# Altium footprint library Headers.PcbLib: 89 footprints (part 1 of 6)
Each footprint in its own frame and in the unit in brackets; x right, y up, seen from the top. Pads: shape width x height; smd on the part's side, far side on the other; paste and mask are expansions set on the pad; w line width, h text height; cw(c..) or ccw(c..) is an arc to the next point about the centre after c.
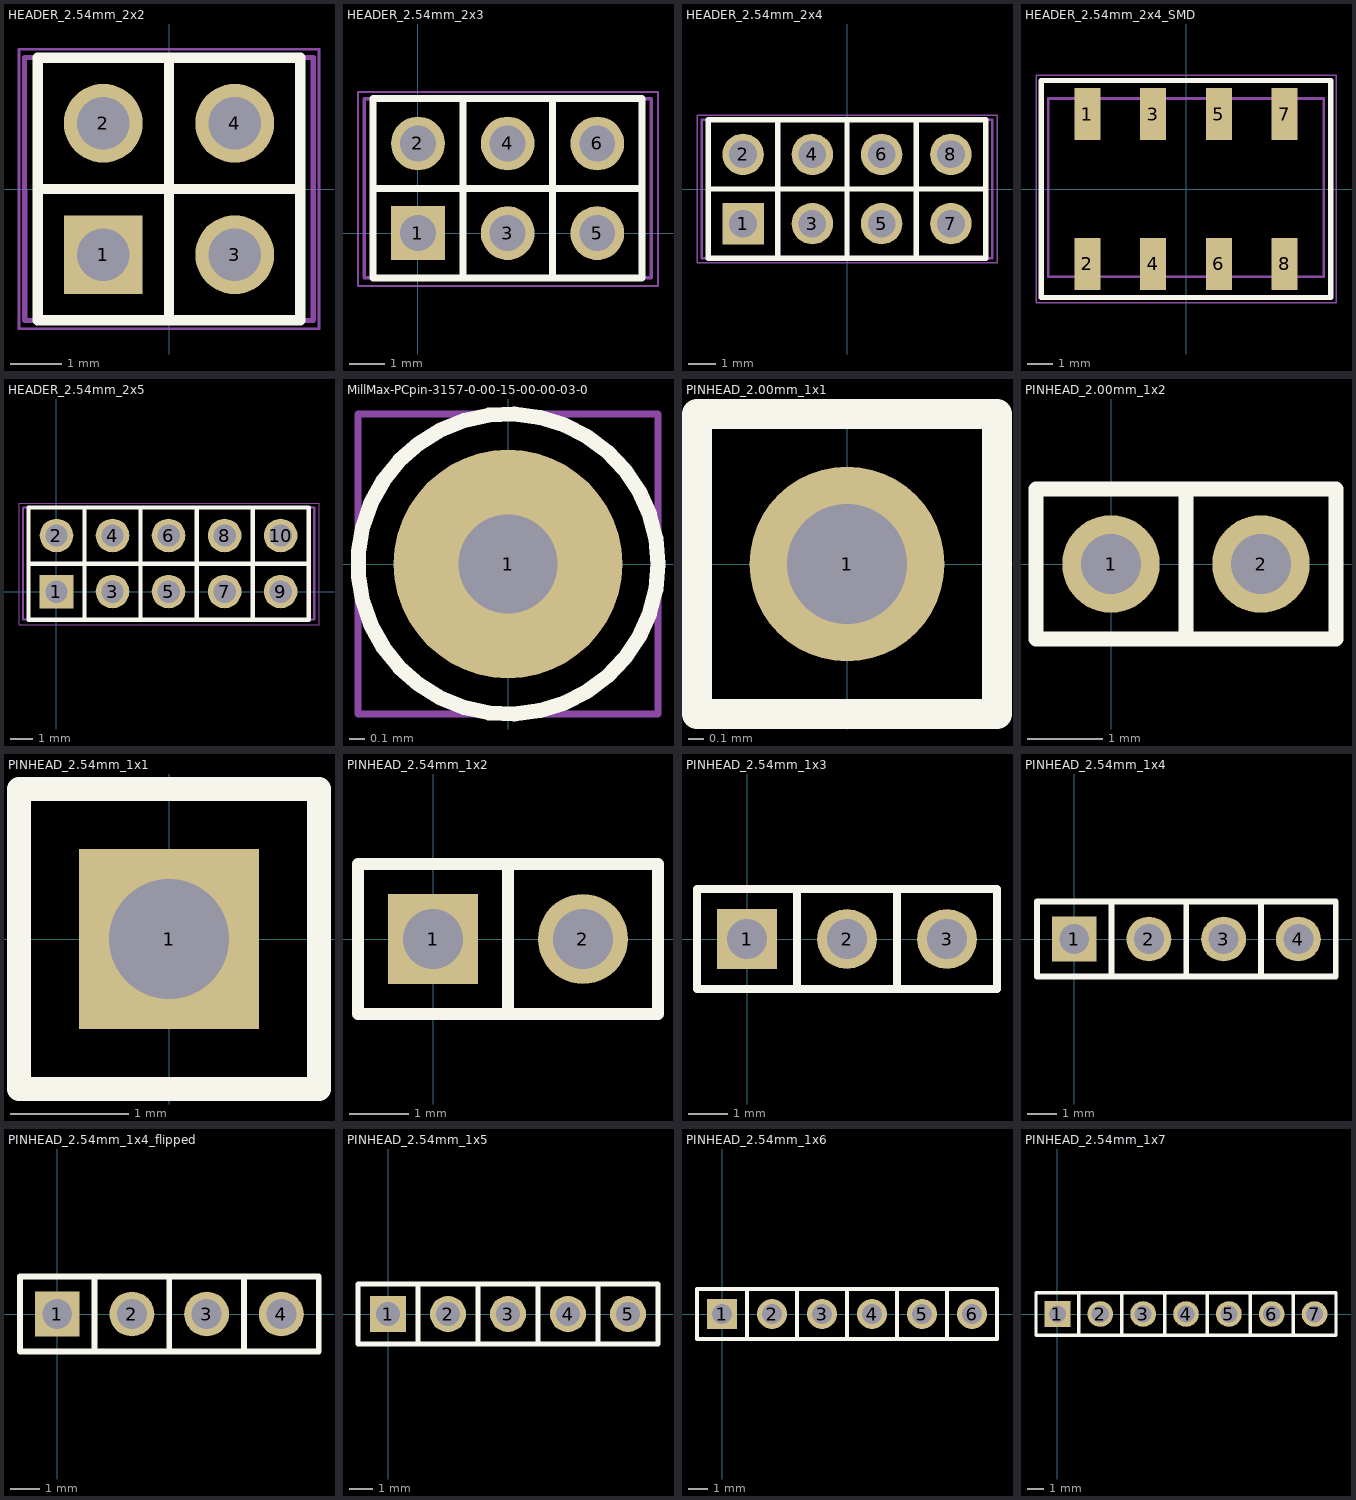
[diagram p0: the footprints below, top view; thin cyan lines are the x and y axes]

## HEADER_2.54mm_2x2 [mil]
pads (4):
  rect 60x60 hole 40: 1(-50,-50)
  round 60 hole 40: 2(-50,50) 3(50,-50) 4(50,50)
Top Overlay:
  lines w7.87: -100,0 0,0 ; -100,0 -100,-100 0,-100 ; -100,0 -100,100 0,100 ; -100,0 0,0 ; 0,-100 0,0 ; 0,-100 0,0 ; 0,-100 100,-100 ; 0,0 100,0 ; 0,0 100,0 ; 0,0 0,100 ; 0,0 0,100 ; 0,100 100,100 ; 100,-100 100,0 ; 100,-100 100,0 ; 100,0 100,100 ; 100,0 100,100
Mechanical 13:
  lines w3.94: -110,-100 109.84,-100 109.84,100 -110,100 -109.84,-100
Mechanical 15:
  lines w1.97: -114.17,-106.3 114.17,-106.3 114.17,106.3 -114.17,106.3 -114.17,-106.3
  text ".Designator" at -111.17,1.17 h78.74
3D body "_ _ _C022LFBN-RC.STEP": height 344.65, standoff -115.98, extent -110.24,-100 109.45,100

## HEADER_2.54mm_2x3 [mil]
pads (6):
  rect 60x60 hole 40: 1(0,0)
  round 60 hole 40: 2(0,100) 3(100,0) 4(100,100) 5(200,0) 6(200,100)
Top Overlay:
  lines w7.87: -50,50 50,50 ; -50,50 -50,150 50,150 ; -50,50 -50,-50 50,-50 ; -50,50 50,50 ; 50,-50 150,-50 ; 50,-50 50,50 ; 50,-50 50,50 ; 50,50 50,150 ; 50,50 50,150 ; 50,50 150,50 ; 50,50 150,50 ; 50,150 150,150 ; 150,-50 150,50 ; 150,-50 250,-50 250,150 150,150 ; 150,-50 150,50 ; 150,50 150,150 ; 150,50 250,50 150,50 ; 150,50 150,150
Mechanical 13:
  lines w3.94: -60,-50 -60,150 260,150 260,-50 -60,-50
Mechanical 15:
  lines w1.97: -66.93,-59.06 -66.93,157.48 267.72,157.48 267.72,-59.06 -66.93,-59.06
  text ".Designator" at -61.17,51.17 h78.74
3D body "User Library-66953-003LF[1].step": height 325, standoff -140, extent -47.24,-68.82 247.76,171.18

## HEADER_2.54mm_2x4 [mil]
pads (8):
  rect 60x60 hole 40: 1(-150,-50)
  round 60 hole 40: 2(-150,50) 3(-50,-50) 4(-50,50) 6(50,50) 7(150,-50) 8(150,50)
  round 60 hole 40 mask+4: 5(50,-50)
Top Overlay:
  lines w7.87: -200,0 -100,0 ; -200,0 -200,100 -100,100 ; -200,0 -200,-100 -100,-100 ; -200,0 -100,0 ; -100,-100 -100,0 ; -100,-100 -100,0 ; -100,-100 0,-100 ; -100,-100 -100,0 ; -100,0 -100,100 ; -100,0 -100,100 ; -100,0 0,0 ; -100,0 -100,100 ; -100,0 0,0 ; -100,100 0,100 ; 0,-100 0,0 ; 0,-100 0,0 ; 0,-100 100,-100 ; 0,0 100,0 ; 0,0 100,0 ; 0,0 0,100 ; 0,0 0,100 ; 0,100 100,100 ; 100,-100 100,0 ; 100,-100 200,-100 ; 100,-100 100,0 ; 100,-100 100,0 ; 100,0 200,0 ; 100,0 100,100 ; 100,0 200,0 ; 100,0 100,100 ; 100,0 100,100 ; 100,100 200,100 ; 200,-100 200,0 ; 200,-100 200,0 ; 200,0 200,100 ; 200,0 200,100
Mechanical 13:
  lines w3.94: -209.84,-100 209.84,-100 209.84,100 -209.84,100 -209.84,-100
Mechanical 15:
  lines w1.97: -216.54,-106.3 216.54,-106.3 216.54,106.3 -216.54,106.3 -216.54,-106.3
  text ".Designator" at -188.98,-11.81 h78.74
3D body "_____C042LFBN-RC[1].STEP": height 344.65, standoff -115.98, extent -209.84,-100 209.84,100

## HEADER_2.54mm_2x4_SMD [mm]
pads (8):
  rect 1x2 smd: 1(-3.81,2.9) 2(-3.81,-2.9) 3(-1.27,2.9) 4(-1.27,-2.9) 5(1.27,2.9) 6(1.27,-2.9) 7(3.81,2.9) 8(3.81,-2.9)
Top Overlay:
  lines w0.2: -5.6,-4.2 5.6,-4.2 5.6,4.2 -5.6,4.2 -5.6,-4.2
Mechanical 13:
  lines w0.1: -5.33,-3.4 5.33,-3.4 5.33,3.5 -5.33,3.5 -5.33,-3.4
Mechanical 15:
  lines w0.05: -5.8,-4.4 5.8,-4.4 5.8,4.4 -5.8,4.4 -5.8,-4.4
  text ".Designator" at -4.8,-0.3 h2
3D body "_ _ _C042KFMS-RC.STEP": height 7.5, standoff 0, extent -5.33,-3.4 5.33,3.446

## HEADER_2.54mm_2x5 [mil]
pads (10):
  rect 60x60 hole 40: 1(0,0)
  round 60 hole 40: 2(0,100) 3(100,0) 4(100,100) 5(200,0) 6(200,100) 7(300,0) 8(300,100) 9(400,0) 10(400,100)
Top Overlay:
  lines w7.87: -50,50 50,50 ; -50,50 -50,150 50,150 ; -50,50 -50,-50 50,-50 ; -50,50 50,50 ; 50,-50 150,-50 ; 50,-50 50,50 ; 50,-50 50,50 ; 50,50 50,150 ; 50,50 50,150 ; 50,50 150,50 ; 50,50 150,50 ; 50,150 150,150 ; 150,-50 150,50 ; 150,-50 250,-50 ; 150,-50 150,50 ; 150,50 150,150 ; 150,50 250,50 ; 150,50 150,150 ; 150,50 250,50 ; 150,150 250,150 ; 250,-50 250,50 ; 250,-50 350,-50 ; 250,-50 250,50 ; 250,-50 250,150 ; 250,50 350,50 ; 250,50 250,150 ; 250,50 350,50 ; 250,50 250,150 ; 250,150 350,150 ; 350,-50 350,50 ; 350,-50 450,-50 450,150 350,150 ; 350,-50 350,50 ; 350,-50 350,150 ; 350,50 450,50 350,50 ; 350,50 350,150 ; 350,50 350,150
Mechanical 13:
  lines w3.94: -60,-50 -60,150 460,150 460,-50 -60,-50
Mechanical 15:
  lines w1.97: -66.93,-59.06 -66.93,157.48 468.5,157.48 468.5,-59.06 -66.93,-59.06
  text ".Designator" at 27.56,35.43 h78.74
3D body "User Library-Header 5X2.STEP": height 333.75, standoff -126.88, extent -60,-49 459.68,151

## MillMax-PCpin-3157-0-00-15-00-00-03-0 [mil]
pads (1):
  round 60 hole 26: 1(0,0)
Top Overlay:
  circle w3.94: c0,0 r39.37
Mechanical 13:
  circle w3.94: c0,0 r22.51
Mechanical 15:
  lines w1.97: -39.37,-39.37 39.37,-39.37 39.37,39.37 -39.37,39.37 -39.37,-39.37
  text ".Designator" at -39.37,-7.87 h27.56
3D body "mill-max-3157-0-00-01-00-00-03-0.step": height 145, standoff -45, extent -22.49,-22.49 22.51,22.51

## PINHEAD_2.00mm_1x1 [mm]
pads (1):
  round 1.3 hole 0.8: 1(0,0)
Top Overlay:
  lines w0.2: -1,-1 1,-1 1,1 -1,1 -1,-1
Mechanical 15:
  lines w0.05: -1,-1 1,-1 1,1 -1,1 -1,-1
  text ".Designator" at -0.9,-0.1 h0.5
3D body "_ _ _N021PAEN-RC_singlepin.stp": height 5.64, standoff -2.76, extent -1,-1 1,1

## PINHEAD_2.00mm_1x2 [mm]
pads (2):
  round 1.3 hole 0.8: 1(0,0) 2(2,0)
Top Overlay:
  lines w0.2: 1,-1 1,1 ; 1,-1 -1,-1 -1,1 1,1 ; 1,-1 3,-1 3,1 1,1
Mechanical 15:
  lines w0.05: -1,-1 3,-1 3,1 -1,1 -1,-1
  text ".Designator" at -0.9,-0.1 h0.5
3D body "_____N021PAEN-RC[1].STEP": height 5.64, standoff -2.76, extent -1,-1 3,1

## PINHEAD_2.54mm_1x1 [mil]
pads (1):
  rect 60x60 hole 40: 1(0,0)
Top Overlay:
  lines w7.87: -50,-50 50,-50 50,50 -50,50 -50,-50
3D body "User Library-HDR1X1 Rectangular Straight.step": height 339.58, standoff -124.98, extent -53.14,-53.15 53.16,53.15

## PINHEAD_2.54mm_1x2 [mil]
pads (2):
  rect 60x60 hole 40: 1(0,0)
  round 60 hole 40: 2(100,0)
Top Overlay:
  lines w7.87: 50,-50 150,-50 150,50 50,50 ; 50,-50 50,50 ; 50,-50 50,50 ; 50,-50 -50,-50 -50,50 50,50
3D body "User Library-HDR1X1 Rectangular Straight.step": height 339.58, standoff -124.98, extent 46.86,-53.14 153.16,53.16
3D body "User Library-HDR1X1 Rectangular Straight.step": height 339.58, standoff -124.98, extent -53.14,-53.15 53.16,53.15

## PINHEAD_2.54mm_1x3 [mil]
pads (3):
  rect 60x60 hole 40: 1(0,0)
  round 60 hole 40: 2(100,0) 3(200,0)
Top Overlay:
  lines w7.87: 50,-50 -50,-50 -50,50 50,50 ; 50,-50 50,50 ; 50,-50 50,50 ; 50,-50 150,-50 ; 50,50 150,50 ; 150,-50 250,-50 250,50 150,50 ; 150,-50 150,50 ; 150,-50 150,50
3D body "User Library-HDR1X1 Rectangular Straight.step": height 339.58, standoff -124.98, extent 146.86,-53.15 253.16,53.15
3D body "User Library-HDR1X1 Rectangular Straight.step": height 339.58, standoff -124.98, extent -53.14,-53.15 53.16,53.15
3D body "User Library-HDR1X1 Rectangular Straight.step": height 339.58, standoff -124.98, extent 46.86,-53.14 153.16,53.16

## PINHEAD_2.54mm_1x4 [mil]
pads (4):
  rect 60x60 hole 40: 1(0,0)
  round 60 hole 40: 2(100,0) 3(200,0) 4(300,0)
Top Overlay:
  lines w7.87: 50,-50 150,-50 ; 50,-50 50,50 ; 50,-50 50,50 ; 50,-50 -50,-50 -50,50 50,50 ; 50,50 150,50 ; 150,-50 150,50 ; 150,-50 250,-50 ; 150,-50 150,50 ; 150,50 250,50 ; 250,-50 350,-50 350,50 250,50 ; 250,-50 250,50 ; 250,-50 250,50
Mechanical 15:
  lines w1.97: -51.18,-51.18 350.39,-51.18 350.39,51.18 -51.18,51.18 -51.18,-51.18
  text ".Designator" at -23.62,-11.81 h39.37
3D body "User Library-HDR1X1 Rectangular Straight.step": height 339.58, standoff -124.98, extent 246.86,-53.14 353.16,53.16
3D body "User Library-HDR1X1 Rectangular Straight.step": height 339.58, standoff -124.98, extent 146.86,-53.15 253.16,53.15
3D body "User Library-HDR1X1 Rectangular Straight.step": height 339.58, standoff -124.98, extent 46.86,-53.14 153.16,53.16
3D body "User Library-HDR1X1 Rectangular Straight.step": height 339.58, standoff -124.98, extent -53.14,-53.15 53.16,53.15

## PINHEAD_2.54mm_1x4_flipped [mil]
pads (4):
  rect 60x60 hole 40: 1(0,0)
  round 60 hole 40: 2(100,0) 3(200,0) 4(300,0)
Top Overlay:
  lines w7.87: 50,-50 150,-50 ; 50,-50 50,50 ; 50,-50 50,50 ; 50,-50 -50,-50 -50,50 50,50 ; 50,50 150,50 ; 150,-50 150,50 ; 150,-50 250,-50 ; 150,-50 150,50 ; 150,50 250,50 ; 250,-50 350,-50 350,50 250,50 ; 250,-50 250,50 ; 250,-50 250,50
Mechanical 15:
  lines w1.97: -51.18,-51.18 350.39,-51.18 350.39,51.18 -51.18,51.18 -51.18,-51.18
  text ".Designator" at -23.62,-11.81 h39.37
3D body "User Library-HDR1X1 Rectangular Straight.step": height 234.25, standoff -230.31, extent 246.86,-53.14 353.16,53.16
3D body "User Library-HDR1X1 Rectangular Straight.step": height 234.25, standoff -230.31, extent 146.86,-53.15 253.16,53.15
3D body "User Library-HDR1X1 Rectangular Straight.step": height 234.25, standoff -230.31, extent 46.86,-53.14 153.16,53.16
3D body "User Library-HDR1X1 Rectangular Straight.step": height 234.25, standoff -230.31, extent -53.14,-53.15 53.16,53.15

## PINHEAD_2.54mm_1x5 [mil]
pads (5):
  rect 60x60 hole 40: 1(0,0)
  round 60 hole 40: 2(100,0) 3(200,0) 4(300,0) 5(400,0)
Top Overlay:
  lines w7.87: 50,-50 150,-50 ; 50,-50 50,50 ; 50,-50 50,50 ; 50,-50 -50,-50 -50,50 50,50 ; 50,50 150,50 ; 150,-50 150,50 ; 150,-50 250,-50 ; 150,-50 150,50 ; 150,50 250,50 ; 250,-50 350,-50 ; 250,-50 250,50 ; 250,-50 250,50 ; 250,50 350,50 ; 350,-50 350,50 ; 350,-50 350,50 ; 350,-50 450,-50 450,50 350,50
3D body "User Library-HDR1X1 Rectangular Straight.step": height 339.58, standoff -124.98, extent 246.86,-53.14 353.16,53.16
3D body "User Library-HDR1X1 Rectangular Straight.step": height 339.58, standoff -124.98, extent 146.86,-53.15 253.16,53.15
3D body "User Library-HDR1X1 Rectangular Straight.step": height 339.58, standoff -124.98, extent 46.86,-53.14 153.16,53.16
3D body "User Library-HDR1X1 Rectangular Straight.step": height 339.58, standoff -124.98, extent -53.14,-53.15 53.16,53.15
3D body "User Library-HDR1X1 Rectangular Straight.step": height 339.58, standoff -124.98, extent 346.86,-53.15 453.16,53.15

## PINHEAD_2.54mm_1x6 [mil]
pads (6):
  rect 60x60 hole 40: 1(0,0)
  round 60 hole 40: 2(100,0) 3(200,0) 4(300,0) 5(400,0) 6(500,0)
Top Overlay:
  lines w7.87: 50,-50 150,-50 ; 50,-50 50,50 ; 50,-50 50,50 ; 50,-50 -50,-50 -50,50 50,50 ; 50,50 150,50 ; 150,-50 150,50 ; 150,-50 250,-50 ; 150,-50 150,50 ; 150,50 250,50 ; 250,-50 350,-50 ; 250,-50 250,50 ; 250,-50 250,50 ; 250,50 350,50 ; 350,-50 350,50 ; 350,-50 450,-50 ; 350,-50 350,50 ; 350,50 450,50 ; 450,-50 550,-50 550,50 450,50 ; 450,-50 450,50 ; 450,-50 450,50
3D body "User Library-HDR1X1 Rectangular Straight.step": height 339.58, standoff -124.98, extent 446.86,-53.14 553.16,53.16
3D body "User Library-HDR1X1 Rectangular Straight.step": height 339.58, standoff -124.98, extent 346.86,-53.15 453.16,53.15
3D body "User Library-HDR1X1 Rectangular Straight.step": height 339.58, standoff -124.98, extent 246.86,-53.14 353.16,53.16
3D body "User Library-HDR1X1 Rectangular Straight.step": height 339.58, standoff -124.98, extent 146.86,-53.15 253.16,53.15
3D body "User Library-HDR1X1 Rectangular Straight.step": height 339.58, standoff -124.98, extent 46.86,-53.14 153.16,53.16
3D body "User Library-HDR1X1 Rectangular Straight.step": height 339.58, standoff -124.98, extent -53.14,-53.15 53.16,53.15

## PINHEAD_2.54mm_1x7 [mil]
pads (7):
  rect 60x60 hole 40: 1(0,0)
  round 60 hole 40: 2(100,0) 3(200,0) 4(300,0) 5(400,0) 6(500,0) 7(600,0)
Top Overlay:
  lines w7.87: 50,-50 150,-50 ; 50,-50 50,50 ; 50,-50 50,50 ; 50,-50 -50,-50 -50,50 50,50 ; 50,50 150,50 ; 150,-50 150,50 ; 150,-50 250,-50 ; 150,-50 150,50 ; 150,50 250,50 ; 250,-50 350,-50 ; 250,-50 250,50 ; 250,-50 250,50 ; 250,50 350,50 ; 350,-50 350,50 ; 350,-50 450,-50 ; 350,-50 350,50 ; 350,50 450,50 ; 450,-50 550,-50 ; 450,-50 450,50 ; 450,-50 450,50 ; 450,50 550,50 ; 550,-50 550,50 ; 550,-50 550,50 ; 550,-50 650,-50 650,50 550,50
3D body "User Library-HDR1X1 Rectangular Straight.step": height 339.58, standoff -124.98, extent 446.86,-53.14 553.16,53.16
3D body "User Library-HDR1X1 Rectangular Straight.step": height 339.58, standoff -124.98, extent 346.86,-53.15 453.16,53.15
3D body "User Library-HDR1X1 Rectangular Straight.step": height 339.58, standoff -124.98, extent 246.86,-53.14 353.16,53.16
3D body "User Library-HDR1X1 Rectangular Straight.step": height 339.58, standoff -124.98, extent 146.86,-53.15 253.16,53.15
3D body "User Library-HDR1X1 Rectangular Straight.step": height 339.58, standoff -124.98, extent 46.86,-53.14 153.16,53.16
3D body "User Library-HDR1X1 Rectangular Straight.step": height 339.58, standoff -124.98, extent -53.14,-53.15 53.16,53.15
3D body "User Library-HDR1X1 Rectangular Straight.step": height 339.58, standoff -124.98, extent 546.86,-53.15 653.16,53.15